# EAGLE library part 93LC56 (library ICs)
2K Microwire Compatible Serial EEPROM [A = 256 x 8bit] [B = 128 x 16bit] 'B' for FT232H
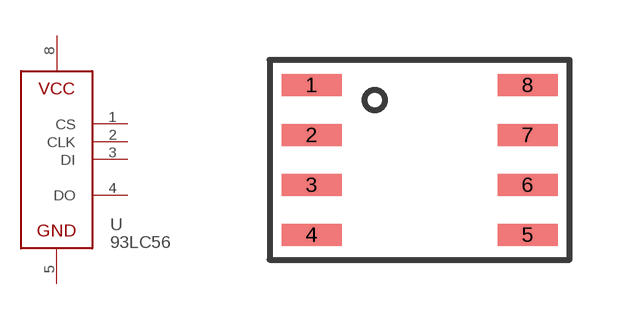
[diagram p42: symbol with the pads of SO8; footprint SO8]

Designator prefix U

## 93LC56A-I/SN (FARNELL: 1331465; PRICE_PER: 0.204)  [SO8]
1  CS
2  CLK
3  DI
4  DO
5  GND
8  V+

## 93LC56B-I/SN (DIGIKEY: 93LC56B-I/SN-ND; HEIGHT: 2; PRICE_PER: 0.26; VALUE: 93LC56B-I/SN)  [SO8]
Pads as for SO8

## Footprint SO8 (pad centres in mm)
smd 1.5 x 0.55: 1 -2.7,1.875; 2 -2.7,0.625; 3 -2.7,-0.625; 4 -2.7,-1.875; 5 2.7,-1.875; 6 2.7,-0.625; 7 2.7,0.625; 8 2.7,1.875